# Altium footprint library SimpleFlashlight.PcbLib: 7 footprints
Each footprint in its own frame and in the unit in brackets; x right, y up, seen from the top. Pads: shape width x height; smd on the part's side, far side on the other; paste and mask are expansions set on the pad; w line width, h text height; cw(c..) or ccw(c..) is an arc to the next point about the centre after c.
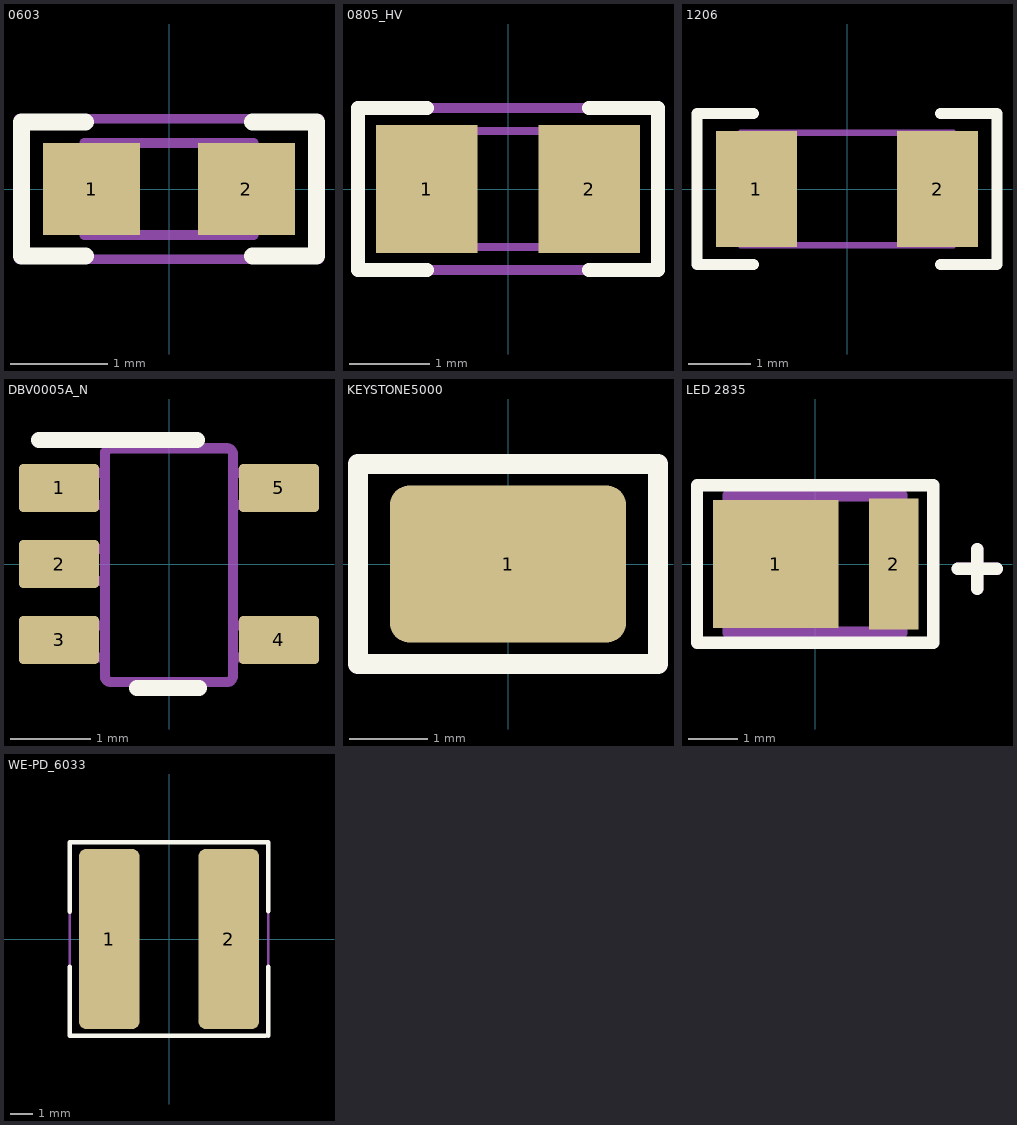
[diagram p0: the footprints below, top view; thin cyan lines are the x and y axes]

## 0603 [mm]
pads (2):
  rect 1x0.95 smd: 1(-0.8,0) 2(0.8,0)
Top Overlay:
  lines w0.178: -0.864,-0.691 -1.524,-0.691 -1.524,0.693 -0.864,0.693 ; 0.864,-0.691 1.524,-0.691 1.524,0.693 0.864,0.693
M5-Top Constraints:
  lines w0.1: -1.55,-0.725 -1.55,0.725 1.55,0.725 1.55,-0.725 -1.55,-0.725
M14-Top Assembly:
  lines w0.1: -0.55,-0.475 -0.55,0.475 ; 0.55,-0.475 0.55,0.475 ; -0.875,-0.475 -0.875,0.475 0.875,0.475 0.875,-0.475 -0.875,-0.475
3D body "CAP 0603.SLDPRT": height 0.84, standoff 0.01, extent -0.8,-0.412 0.8,0.412

## 0805_HV [mil]
pads (2):
  rect 50x63 smd: 1(-40,0) 2(40,0)
Top Overlay:
  lines w7: -40,-40 -74,-40 -74,0 -74,40 -40,40 ; 40,-40 74,-40 74,0 74,40 40,40
M5-Top Constraints:
  lines w5: -74,-40 74,-40 74,40 -74,40 -74,-40
M14-Top Assembly:
  lines w3.94: -25.59,-28.54 -25.59,28.54 ; 25.59,-28.54 25.59,28.54 ; -43.31,-28.54 43.31,-28.54 43.31,28.54 -43.31,28.54 -43.31,-28.54
3D body "Resistor 0805.x_b": height 21.88, standoff 0.38, extent -49.82,-24.61 49.82,24.6

## 1206 [mm]
pads (2):
  rect 1.3x1.85 smd: 1(-1.45,0) 2(1.45,0)
Top Overlay:
  lines w0.178: -1.5,-1.21 -2.4,-1.21 -2.4,1.21 -1.5,1.21 ; 1.5,-1.21 2.4,-1.21 2.4,1.21 1.5,1.21
M5-Top Constraints:
  lines w0.1: -1.7,-0.9 1.7,-0.9 1.7,0.9 -1.7,0.9 -1.7,-0.9
M14-Top Assembly:
  lines w0.1: -1.2,-0.9 -1.2,0.9 ; 1.2,-0.9 1.2,0.9 ; -1.7,-0.9 -1.7,0.9 1.7,0.9 1.7,-0.9 -1.7,-0.9
3D body "CAP 1206.x_b": height 1.64, standoff 0.01, extent -1.625,-0.787 1.575,0.837

## DBV0005A_N [mm]
pads (5):
  rrect17% 1x0.6 smd: 1(-1.375,0.95) 2(-1.375,0) 3(-1.375,-0.95) 4(1.375,-0.95) 5(1.375,0.95)
Top Overlay:
  lines w0.2: -1.625,1.55 0.35,1.55 ; -0.4,-1.55 0.375,-1.55
M5-Top Constraints:
  lines w0.127: -0.801,-1.4 ccw(c-0.725,-1.399) -0.725,-1.475 ; -0.801,1.371 cw(c-0.725,1.37) -0.725,1.446 ; 0.724,-1.475 ccw(c0.723,-1.399) 0.799,-1.4 ; 0.724,1.446 cw(c0.723,1.37) 0.799,1.371
M14-Top Assembly:
  lines w0.127: -0.801,-1.4 -0.801,-1.399 -0.801,1.37 ; 0.724,-1.475 0.723,-1.475 -0.725,-1.475 ; 0.724,1.446 0.723,1.446 -0.725,1.446 ; 0.799,-1.4 0.799,-1.399 0.799,1.37 ; -0.801,1.37 -0.801,1.371 ; -0.725,-1.475 -0.725,-1.475 ; -0.725,1.446 -0.725,1.446 ; 0.799,1.37 0.799,1.371 ; -1.423,-1.167 -1.199,-1.167 -1.105,-1.167 -1.088,-1.167 -0.835,-1.167 -0.801,-1.167 -0.801,-0.767 -0.835,-0.767 -1.088,-0.767 -1.105,-0.767 -1.199,-0.767 -1.423,-0.767 -1.423,-1.167 ; -1.423,-0.215 -1.199,-0.215 -1.105,-0.215 -1.088,-0.215 -0.835,-0.215 -0.801,-0.215 -0.801,0.186 -0.835,0.186 -1.088,0.186 -1.105,0.186 -1.199,0.186 -1.423,0.186 -1.423,-0.215 ; -1.423,0.738 -1.199,0.738 -1.105,0.738 -1.088,0.738 -0.835,0.738 -0.801,0.738 -0.801,1.138 -0.835,1.138 -1.088,1.138 -1.105,1.138 -1.199,1.138 -1.423,1.138 -1.423,0.738 ; 0.799,-1.167 0.799,-0.767 0.834,-0.767 1.087,-0.767 1.103,-0.767 1.198,-0.767 1.422,-0.767 1.422,-1.167 1.198,-1.167 1.103,-1.167 1.087,-1.167 0.834,-1.167 0.799,-1.167 ; 0.799,0.738 0.799,1.138 0.834,1.138 1.087,1.138 1.103,1.138 1.198,1.138 1.422,1.138 1.422,0.738 1.198,0.738 1.103,0.738 1.087,0.738 0.834,0.738 0.799,0.738
3D body "DBV0005A.stp": height 1.09, standoff 0, extent -1.422,-1.461 1.423,1.46

## KEYSTONE5000 [mm]
pads (1):
  rrect25% 3x2 smd: 1(0,0)
Top Overlay:
  lines w0.254: -1.905,-1.27 -1.905,1.27 1.905,1.27 1.905,-1.27 -1.905,-1.27
M5-Top Constraints:
  lines w0.254: -1.905,-1.27 -1.905,1.27 1.905,1.27 1.905,-1.27 -1.905,-1.27
3D body: height 0.03, standoff 0, extent -1.25,-1.245 1.241,1.251

## LED 2835 [mm]
pads (2):
  rect 2.55x2.6 smd: 1(-0.8,0)
  rect 1x2.66 smd: 2(1.6,0)
Top Overlay:
  lines w0.254: 2.9,-0.1 3.7,-0.1 ; 3.3,-0.5 3.3,0.3 ; -2.4,-1.6 -2.4,1.6 2.4,1.6 2.4,-1.6 -2.4,-1.6
M14-Top Assembly:
  lines w0.254: 2.9,-0.1 3.7,-0.1 ; 3.3,-0.5 3.3,0.3 ; -1.75,-1.4 -1.75,1.4 1.75,1.4 1.75,-1.4 -1.75,-1.4
3D body "LED 2835.stp": height 1.62, standoff 0.01, extent -1.65,-1.4 1.85,1.4

## WE-PD_6033 [mm]
pads (2):
  rrect25% 2.7x8 smd: 1(-2.65,0) 2(2.65,0)
Top Overlay:
  lines w0.2: -4.4,-1.225 -4.4,-4.3 4.3,-4.3 ; -4.4,1.2 -4.4,4.3 4.4,4.3 4.4,1.225 ; 4.4,-4.3 4.4,-1.225
M14-Top Assembly:
  lines w0.1: -4.4,-4.3 4.4,-4.3 4.4,4.3 -4.4,4.3 -4.4,-4.3
3D body "SDR0805-100ML-BOURNS.x_b": height 5.31, standoff 0.01, extent -3.9,-3.9 3.9,3.9